# Altium schematic symbol library Pb03.SCHLIB: 23 symbols
Pins are listed as number, name and electrical type; pins without a type are passive.

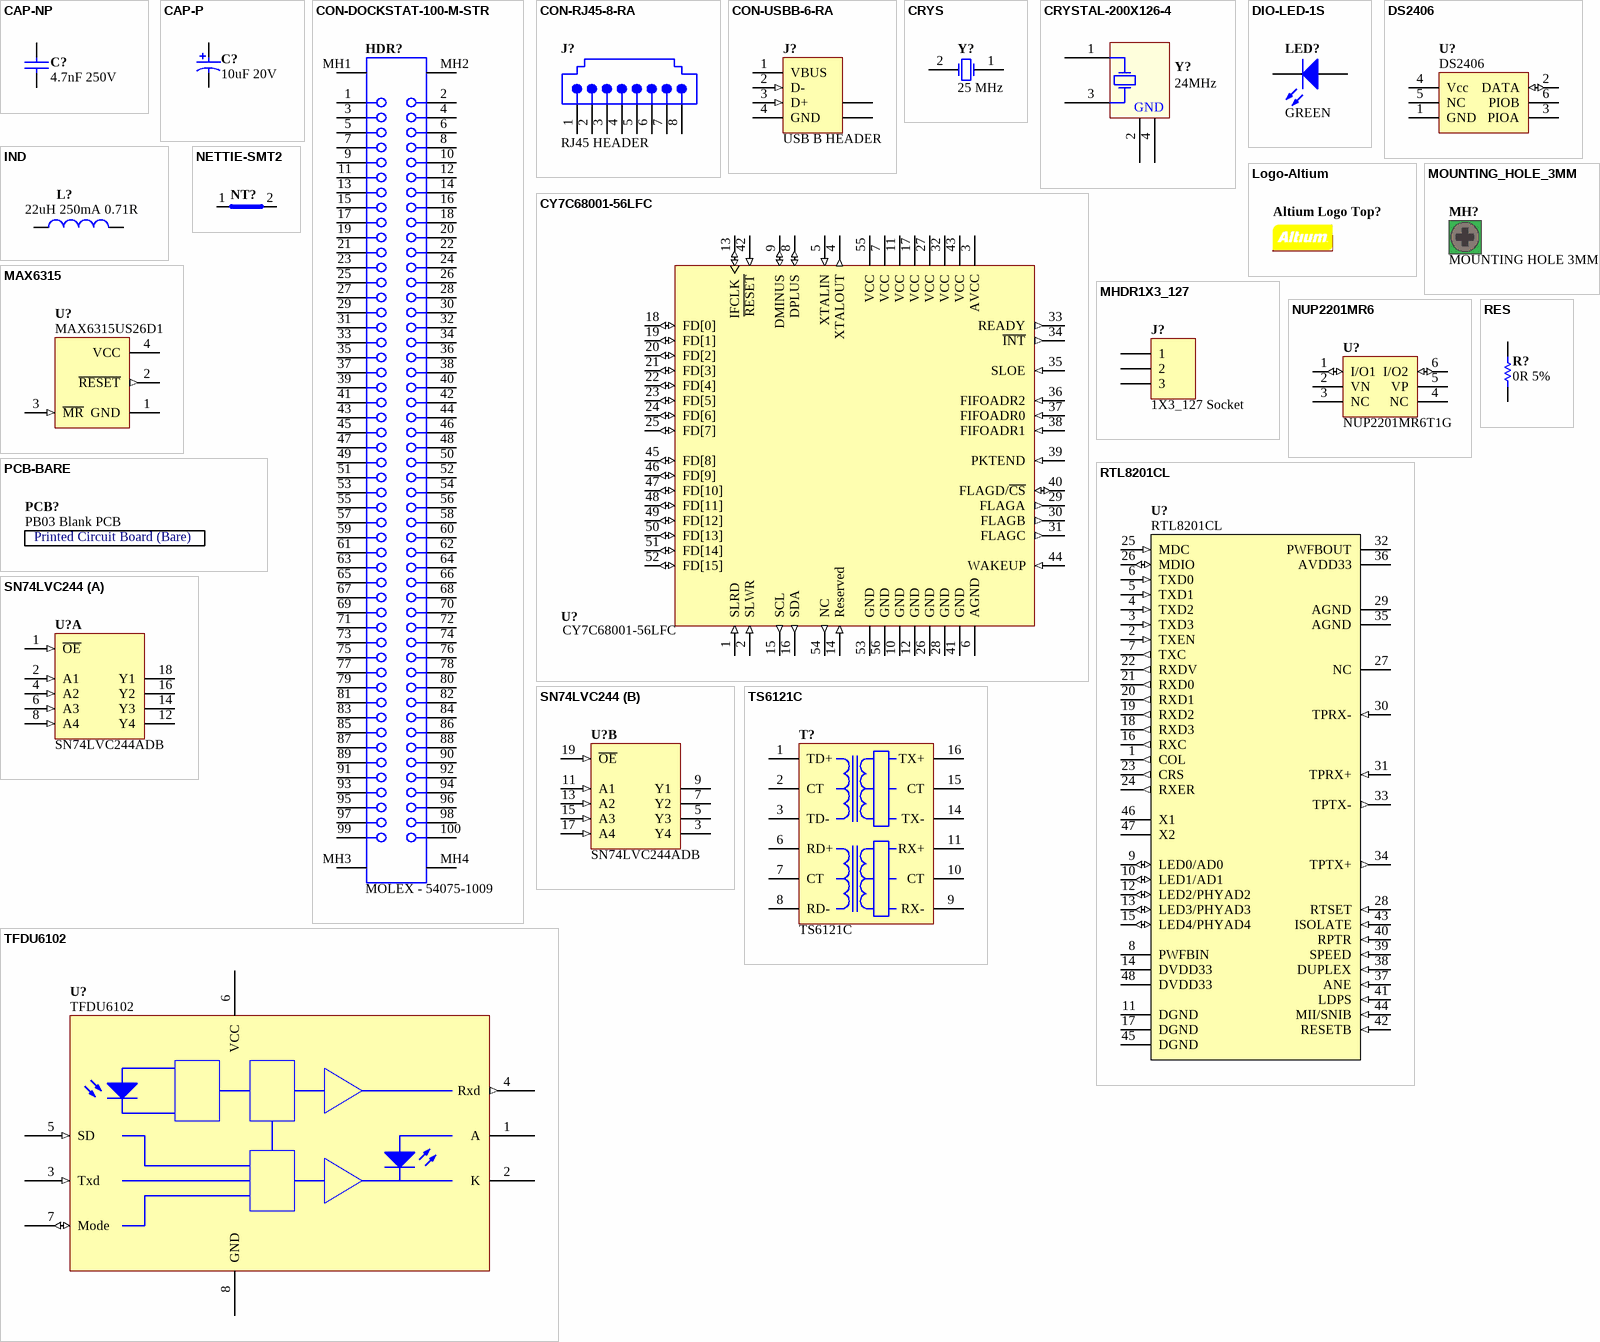
[diagram p0: symbols CAP-NP to TS6121C]

## CAP-NP
designator C?, comment 4.7nF 250V
Capacitor, Ceramic, 4.7nF 20% 250V Panasonic BC J Lead (CAPM7163) Y5V; Polarity: Non-Polarized; Tolerance: 20% %; Capacitance: 4.7 nF; Category: Capacitor; Dielectric: Y5V; Mounting Technology: Surface Mount; Rated Voltage: 250 V; Status: Production; Technology: Ceramic
footprint CAPM7163
pins: 1, 2

## CAP-P
designator C?, comment 10uF 20V
Capacitor, Tantalum, 10uF 10% 20V MCCT-B (3528); Polarity: Polarized; Capacitance: 10 uF; Category: Capacitor; Mounting Technology: Surface Mount; Rated Voltage: 20 V; Status: Production; Technology: Tantalum; Tolerance: 10 %
footprint CAPC3528-STAR
pins: 1, 2

## CON-DOCKSTAT-100-M-STR
designator HDR?, comment MOLEX - 54075-1009
Connector, Molex Docking Station 100 Pin Male 54075; Connector type: MOLEX - 54075-1009; Status: Production; Category: Connector
footprint 54075
pins: 1, 2, 3, 4, 5, 6, 7, 8, 9, 10, 11, 12, 13, 14, 15, 16, 17, 18, 19, 20, 21, 22, 23, 24, 25, 26, 27, 28, 29, 30, 31, 32, 33, 34, 35, 36, 37, 38, 39, 40, 41, 42, 43, 44, 45, 46, 47, 48, 49, 50, 51, 52, 53, 54, 55, 56, 57, 58, 59, 60, 61, 62, 63, 64, 65, 66, 67, 68, 69, 70, 71, 72, 73, 74, 75, 76, 77, 78, 79, 80, 81, 82, 83, 84, 85, 86, 87, 88, 89, 90, 91, 92, 93, 94, 95, 96, 97, 98, 99, 100, MH1, MH2, MH3, MH4

## CON-RJ45-8-RA
designator J?, comment RJ45 HEADER
Connector, RJ45 Socket, Right-Angle, 8 Way (Ethernet), PCM8P8C; Max Current: mA; Category: Connector; Connector type: Header; Mounting Technology: Surface Mount; Status: Production
footprint 15-43-6233
pins: 1, 2, 3, 4, 5, 6, 7, 8

## CON-USBB-6-RA
designator J?, comment USB B HEADER
Connector, USB B Type, Right Angle, Thru Hole, White; Max Current: mA; Category: Connector; Connector type: Header; Mounting Technology: Through-Hole; Pin Count: 4; Status: Production
footprint 440119
footprint KUSB
3D model USB203
pins: 1 VBUS (power) "Power", 2 D- (in) "-DATA", 3 D+ (in) "+DATA", 4 GND (power) "Ground", 5 SHLD "Shield", 6 SHLD "Shield"

## CRYS
designator Y?, comment 25 MHz
Crystal, 25 MHz  +/-30ppm 20pf HC49SMD; Frequency Stability: 30 ppm; Nominal Operational Voltage: mV; Category: Crystal; Frequency Tolerance: 30 ppm; Load Capacitance: 20 pF; Mounting Technology: Surface Mount; Nominal Fequency: 25 MHz; Status: Production
footprint XTAL_HC49SMD
pins: 1 OSC1, 2 OSC2

## CRYSTAL-200X126-4
designator Y?, comment 24MHz
Crystal, SMD, 24.000000MHz Stab=30ppm 20.0pF; Frequency Stability: 30 ppm; Load Capacitance: 20 pF; Nominal Operational Voltage: mV; Category: Crystal; Frequency Tolerance: 30 ppm; Mounting Technology: Surface Mount; Nominal Fequency: 24 MHz; Status: Unreleased
footprint XTAL-200X126-4
pins: 1 X1, 2 GND, 3 X2, 4 GND

## CY7C68001-56LFC
designator U?
CY7C68001-56LFC, EZ-USB SX2 High-Speed USB Interface; Comm Standard: None; Category: IC-Communication; Mounting Technology: Surface Mount; Status: Production
footprint QFN50P800X800_HS-57
pins: 1 SLRD (in), 2 SLWR (in), 3 AVCC (power), 4 XTALOUT (out), 5 XTALIN (in), 6 AGND (power), 7 VCC (power), 8 DPLUS (io), 9 DMINUS (io), 10 GND (power), 11 VCC (power), 12 GND (power), 13 IFCLK (io), 14 Reserved (in), 15 SCL (out), 16 SDA (out), 17 VCC (power), 18 FD[0] (io), 19 FD[1] (io), 20 FD[2] (io), 21 FD[3] (io), 22 FD[4] (io), 23 FD[5] (io), 24 FD[6] (io), 25 FD[7] (io), 26 GND (power), 27 VCC (power), 28 GND (power), 29 FLAGA (out), 30 FLAGB (out), 31 FLAGC (out), 32 VCC (power), 33 READY (out), 34 ~{INT} (out), 35 SLOE (in), 36 FIFOADR2 (in), 37 FIFOADR0 (in), 38 FIFOADR1 (in), 39 PKTEND (in), 40 FLAGD/~{CS} (io), 41 GND (power), 42 ~{RESET} (in), 43 VCC (power), 44 WAKEUP (in), 45 FD[8] (io), 46 FD[9] (io), 47 FD[10] (io), 48 FD[11] (io), 49 FD[12] (io), 50 FD[13] (io), 51 FD[14] (io), 52 FD[15] (io), 53 GND (power), 54 NC (out), 55 VCC (power), 56 GND (power)

## DIO-LED-1S
designator LED?, comment GREEN
LED, Green 0805 (2012) KP-2012SGD; Brightness: 12.5 mcd; Peak Wave Length: 565 nm; Category: LED; Color: N/A; Mounting Technology: Surface Mount; Status: Production
footprint LED2012-STAR
pins: 1 A, 2 K

## DS2406
designator U?
Dual Addressable Switch Plus 1KB Memory; Bit Length: Bits; Speed: ps; Supply Voltage: mV; Bit Width: Bits; Mounting Technology: Surface Mount; Status: Unreleased; Technology: None; Category: IC-PROM
footprint TSOC6
pins: 1 GND (power), 2 DATA (io), 3 PIOA (oc), 4 Vcc, 5 NC, 6 PIOB

## IND
designator L?, comment 22uH 250mA 0.71R
Inductor, Coil 22uH  1210 (3225) LQH32CN220K21L; Max Input Current: mA; Category: Inductor; Inductance: 22 uH; Mounting Technology: Surface Mount; Status: Production
footprint INDC3225
pins: 1, 2

## Logo-Altium
designator Altium Logo Top?, comment Altium  (value not drawn)  (no BOM)
Altium Logo for PCB; Category: Graphic-PCB; Status: Production
footprint Logo-Altium

## MAX6315
designator U?, comment MAX6315US26D1
MAX6315, Open-Drain Output SOT Reset IC, Customized Reset Thresholds, Timeout Delays; Category: IC-Other; Status: Production
footprint SOT143
pins: 1 GND (power), 2 ~{RESET} (out), 3 ~{MR} (in), 4 VCC (power)

## MHDR1X3_127
designator J?, comment 1X3_127 Socket
1X3 Pin Vert 1.27mm Socket; Connector type: Header; Max Current: mA; LatestRevisionDate: 17-Jul-2002; LatestRevisionNote: Re-released for DXP Platform.; Publisher: Altium Limited; Mounting Technology: Through-Hole; Status: Unreleased; Category: Connector
signal-integrity model Connector
footprint MHDR1X3_127
pins: 1, 2, 3

## MOUNTING_HOLE_3MM
designator MH?, comment MOUNTING HOLE 3MM  (no BOM)
Mounting Hole, M3 Screw, Plated, Square Pad; Category: Mounting-Hole; Status: Production
footprint MOUNTING_HOLE_3MM
pins: 1 hidden

## NETTIE-SMT2
designator NT?, comment Net Tie SMT2  (value not drawn)  (net tie, no BOM)
Net-Tie, Surface Mount, 2 x 1.6mm x 0.8mm SMT Pads - For 0.8mm Track; Category: Net-Tie; Status: Production
footprint NETTIE-SMT2-31X51
pins: 1 Net1, 2 Net2

## NUP2201MR6
designator U?, comment NUP2201MR6T1G
NUP2201MR6, Low Capacitance Diode Array, USB Protection; Max Input Voltage: mV; Max Output Current: mA; Category: IC-Power; Max Output Voltage: mV; Min Input Voltage: mV; Min Output Voltage: mV; Mounting Technology: Surface Mount; Status: Production; Supply Voltage: mV
footprint TSOP95P275-6
pins: 1 I/O1 (io) "Input/Output 1", 2 VN (power), 3 NC, 4 NC, 5 VP (power), 6 I/O2 (io)

## PCB-BARE
designator PCB?, comment PB03 Blank PCB  (mechanical)
PB03 Blank PCB - Peripheral Board with Ethernet 10-100 + Hi-Speed USB + IrDA; ProjectPath: PB03.PrjPCB; Status: Unreleased; Category: Blank PCB
text: Printed Circuit Board (Bare)

## RES
designator R?, comment 0R 5%
Resistor, 0R 5% 0402 (1005); Power Rating: 63 mW; Mounting Technology: Surface Mount; Resistance: 0 R; Status: Unreleased; Tolerance: 5 %; Category: Resistor
footprint RESC1005-STAR
pins: 1, 2

## RTL8201CL
designator U?
RTL8201CL-VD, Single-Chip/Single-Port 10/100 Fast Ethernet Phyceiver; Comm Standard: None; Category: IC-Communication; Mounting Technology: Surface Mount; Status: Production
footprint TSQFP50P900X900-48
pins: 1 COL (out), 2 TXEN (in), 3 TXD3 (in), 4 TXD2 (in), 5 TXD1 (in), 6 TXD0 (in), 7 TXC (out), 8 PWFBIN (power), 9 LED0/AD0 (io), 10 LED1/AD1 (io), 11 DGND (power), 12 LED2/PHYAD2 (io), 13 LED3/PHYAD3 (io), 14 DVDD33 (power), 15 LED4/PHYAD4 (io), 16 RXC (out), 17 DGND (power), 18 RXD3 (out), 19 RXD2 (out), 20 RXD1 (out), 21 RXD0 (out), 22 RXDV (out), 23 CRS (out), 24 RXER (out), 25 MDC (in), 26 MDIO (io), 27 NC, 28 RTSET (in), 29 AGND (power), 30 TPRX- (in), 31 TPRX+ (in), 32 PWFBOUT (power), 33 TPTX- (out), 34 TPTX+ (out), 35 AGND (power), 36 AVDD33 (power), 37 ANE (in), 38 DUPLEX (in), 39 SPEED (in), 40 RPTR (in), 41 LDPS (in), 42 RESETB (in), 43 ISOLATE (in), 44 MII/SNIB (in), 45 DGND (power), 46 X1, 47 X2, 48 DVDD33 (power)

## SN74LVC244
designator U?, comment SN74LVC244ADB
SN74LVC244ADBR,  Octal Buffer/Driver with 3-State Outputs, 2.0V - 3.6V; Category: IC-Logic; Status: Production
footprint SOP65P780-20
pins on every part: 10 GND (power) hidden to GND, 20 VCC (power) hidden to 3V3
part A pins: 1 ~{OE} (in), 2 A1 (in), 4 A2 (in), 6 A3 (in), 8 A4 (in), 12 Y4 (hiz), 14 Y3 (hiz), 16 Y2 (hiz), 18 Y1 (hiz)
part B pins: 3 Y4 (hiz), 5 Y3 (hiz), 7 Y2 (hiz), 9 Y1 (hiz), 11 A1 (in), 13 A2 (in), 15 A3 (in), 17 A4 (in), 19 ~{OE} (in)

## TFDU6102
designator U?
LED, TFDU6102 Infrared Transceiver up to 4Mbits/s; Brightness: mcd; Peak Wave Length: nm; Category: LED; Color: N/A; Mounting Technology: Surface Mount; Status: Production
footprint TFDU6102
pins: 1 A (power) "IRED Anode, should be externally connected to VCC2 through a current control resistor", 2 K "IRED Cathode, internally connected to driver transistor", 3 Txd (in) "Transmit Data Input", 4 Rxd (out) "Received Data Output, Open Collector. No external pull-up or pull-down resistor required. Output data invalid during transmission.", 5 SD (in) "Shut Down", 6 VCC (power) "Supply Voltage", 7 Mode (io) "Speed Mode", 8 GND (power) "Ground"

## TS6121C
designator T?
Transformer, TS6121C Ethernet 10/100; Category: Transformer; Status: Production
footprint SOIC127P910-16-TX
pins: 1 TD+, 2 CT, 3 TD-, 6 RD+, 7 CT, 8 RD-, 9 RX-, 10 CT, 11 RX+, 14 TX-, 15 CT, 16 TX+